# Altium footprint library footprint_hall_library.PcbLib: 37 footprints (part 1 of 3)
Each footprint in its own frame and in the unit in brackets; x right, y up, seen from the top. Pads: shape width x height; smd on the part's side, far side on the other; paste and mask are expansions set on the pad; w line width, h text height; cw(c..) or ccw(c..) is an arc to the next point about the centre after c.
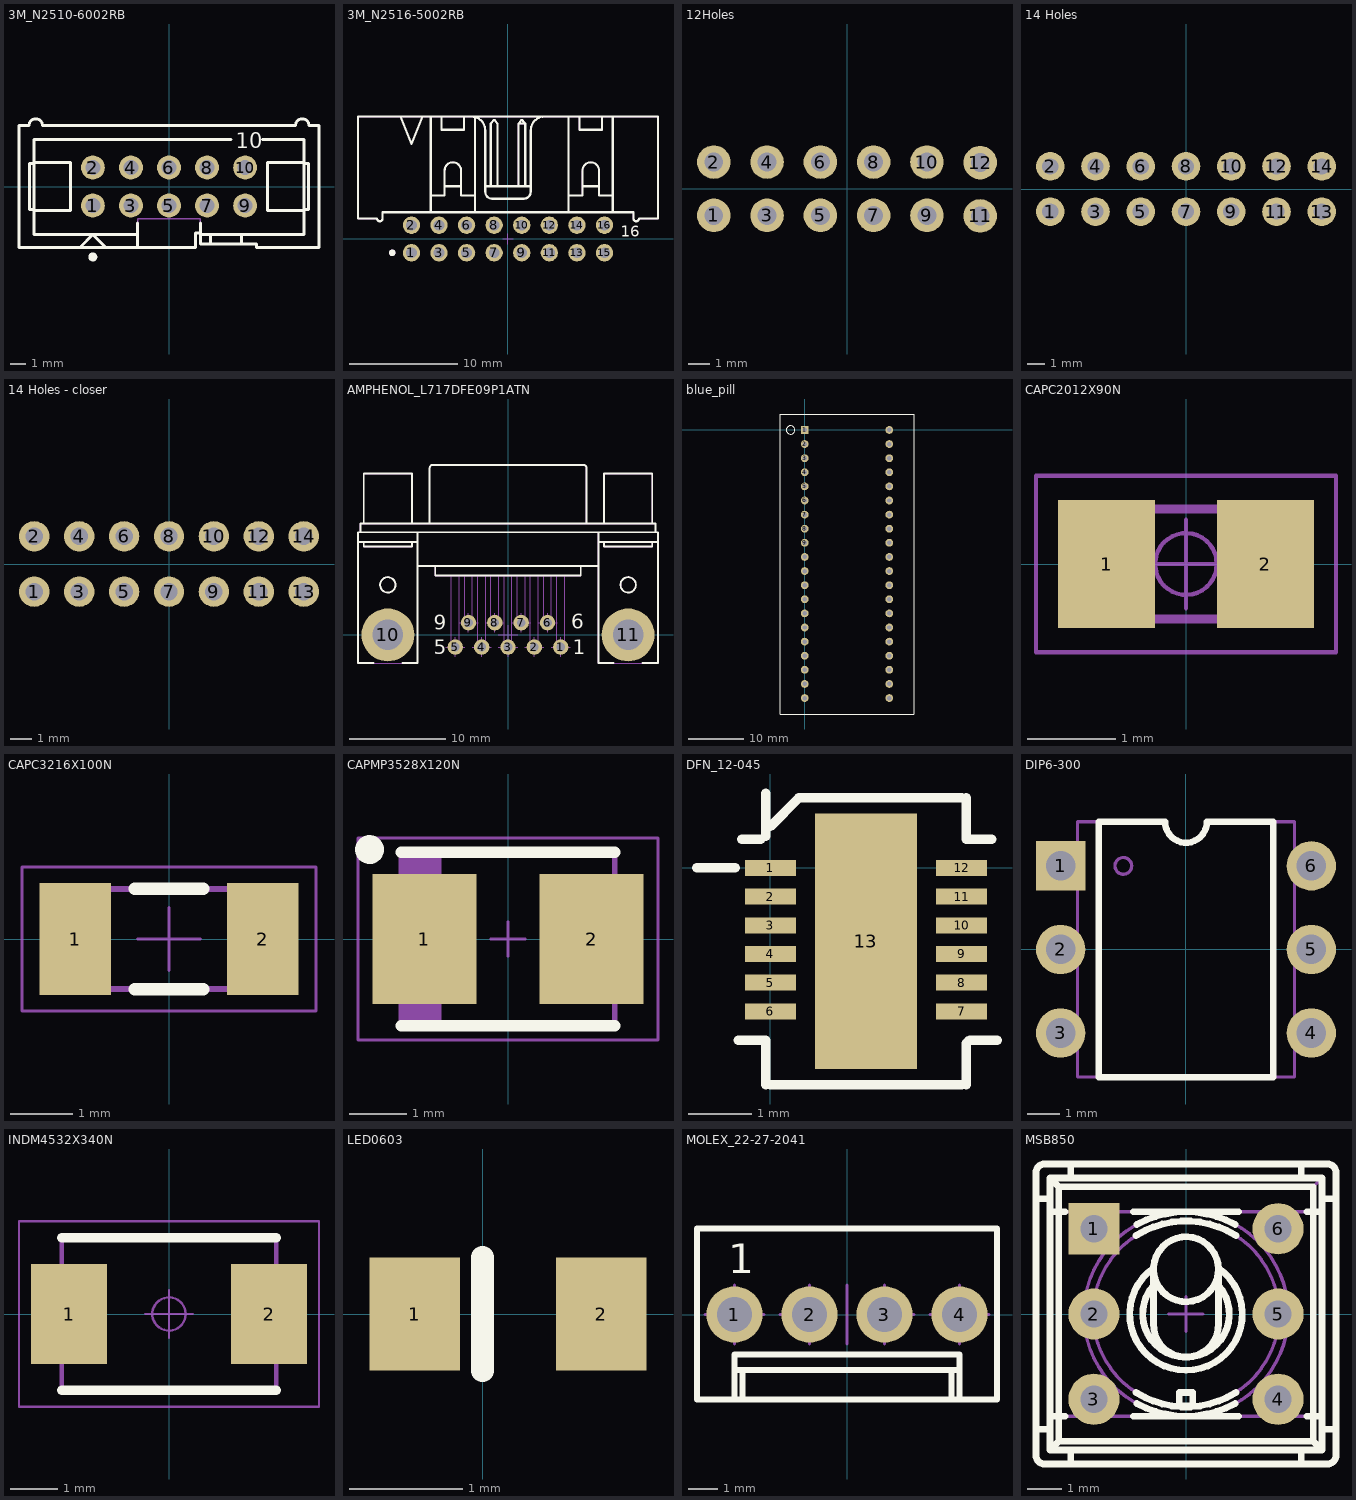
[diagram p0: the footprints below, top view; thin cyan lines are the x and y axes]

## 3M_N2510-6002RB [mm] "10 Contacts - Straight .100\" x .100\" Low Profile Four-Wall Header"
height 10.03
pads (10):
  round 1.6 hole 1: 1(-5.08,-1.27) 2(-5.08,1.27) 3(-2.54,-1.27) 4(-2.54,1.27) 5(0,-1.27) 6(0,1.27) 7(2.54,-1.27) 8(2.54,1.27) 9(5.08,-1.27) 10(5.08,1.27)
Top Overlay:
  circle w0.3: c-5.08,-4.699 r0.15
  lines w0.2: -8.992,-1.603 -6.579,-1.603 -6.579,1.603 -8.992,1.603 ; -8.992,-1.524 -9.296,-1.524 -9.296,1.524 -8.992,1.524 ; -5.944,-4.064 -5.08,-3.2 -4.216,-4.064 ; -2.096,-4.064 -2.096,-2.438 ; -2.096,-3.2 -8.992,-3.2 -8.992,3.15 4.128,3.15 ; 2.095,-3.2 8.992,-3.2 8.992,3.15 6.223,3.15 ; 2.095,-3.102 1.778,-3.102 1.778,-4.064 -10.008,-4.064 -10.008,4.064 -9.347,4.064 cw(c-8.89,4.064) -8.433,4.064 8.433,4.064 cw(c8.89,4.064) 9.347,4.064 10.008,4.064 10.008,-4.064 5.842,-4.064 5.842,-3.835 2.095,-3.835 2.095,-2.438 ; 2.769,-3.835 2.769,-3.2 ; 4.851,-3.835 4.851,-3.2 ; 8.992,-1.603 6.579,-1.603 6.579,1.603 8.992,1.603 ; 8.992,-1.524 9.296,-1.524 9.296,1.524 8.992,1.524
  text "10" at 4.445,2.54 h1.02
Mechanical 14:
  lines w0.1: -8.992,-1.603 -6.579,-1.603 -6.579,1.603 -8.992,1.603 ; -8.992,-1.524 -9.296,-1.524 -9.296,1.524 -8.992,1.524 ; -5.944,-4.064 -5.08,-3.2 -4.216,-4.064 ; -2.096,-4.064 -2.096,-2.159 2.095,-2.159 2.095,-3.835 5.842,-3.835 5.842,-4.064 10.008,-4.064 10.008,4.064 9.347,4.064 ccw(c8.89,4.064) 8.433,4.064 -8.433,4.064 ccw(c-8.89,4.064) -9.347,4.064 -10.008,4.064 -10.008,-4.064 1.778,-4.064 1.778,-3.102 2.095,-3.102 ; -2.096,-3.2 -8.992,-3.2 -8.992,3.15 4.128,3.15 ; 2.095,-3.2 8.992,-3.2 8.992,3.15 6.223,3.15 ; 2.769,-3.835 2.769,-3.2 ; 4.851,-3.835 4.851,-3.2 ; 8.992,-1.603 6.579,-1.603 6.579,1.603 8.992,1.603 ; 8.992,-1.524 9.296,-1.524 9.296,1.524 8.992,1.524
  text "10" at 4.445,2.54 h1.02
3D body "3M_N2510-6002RB.stp": height 9.65, standoff -2.59, extent -10.008,-4.064 10.008,4.572

## 3M_N2516-5002RB [mm] "16 Contacts - Right Angle .100\" x .100\" Low Profile Four-Wall Header"
height 8.59
pads (16):
  round 1.6 hole 1: 1(-8.89,-1.27) 2(-8.89,1.27) 3(-6.35,-1.27) 4(-6.35,1.27) 5(-3.81,-1.27) 6(-3.81,1.27) 7(-1.27,-1.27) 8(-1.27,1.27) 9(1.27,-1.27) 10(1.27,1.27) 11(3.81,-1.27) 12(3.81,1.27) 13(6.35,-1.27) 14(6.35,1.27) 15(8.89,-1.27) 16(8.89,1.27)
Top Overlay:
  circle w0.3: c-10.66,-1.27 r0.15
  lines w0.2: -9.903,11.28 -8.887,8.74 -7.871,11.28 ; -7.109,2.466 -7.109,11.28 ; -7.109,4.015 -5.839,4.015 -5.839,6.301 cw(c-5.077,6.301) -4.315,6.301 -4.315,4.015 -3.045,4.015 ; -6.118,11.28 -6.118,10.06 -4.035,10.06 -4.035,11.28 ; -5.839,4.854 -4.315,4.853 ; -3.362,11.28 cw(c-3.362,10.01) -2.092,10.01 -2.092,4.345 ccw(c-1.457,4.345) -1.457,3.71 ; -3.045,2.466 -3.045,11.239 ; -2.092,4.853 2.099,4.853 ; -1.584,4.853 -1.584,10.619 -1.323,10.954 -1.21,10.954 -0.956,10.628 -0.956,4.853 ; -1.457,3.71 1.464,3.71 ; 0.956,4.853 0.962,10.628 ; 1.464,3.71 ccw(c1.464,4.345) 2.099,4.345 2.099,10.01 ; 1.584,4.853 1.584,10.619 ; 2.099,10.01 cw(c3.369,10.01) 3.369,11.28 ; 5.591,2.466 5.591,11.28 ; 5.591,4.015 6.861,4.015 6.861,6.301 cw(c7.623,6.301) 8.385,6.301 8.385,4.015 9.655,4.015 ; 6.582,11.28 6.582,10.06 8.665,10.06 8.665,11.28 ; 6.861,4.853 8.385,4.853 ; 9.655,2.466 9.655,11.28 ; 0.962,10.628 1.217,10.954 1.33,10.954 1.584,10.619 ; 0.962,10.628 1.584,10.619 ; -13.814,1.882 -13.814,11.28 13.821,11.28 13.821,1.882 12.068,1.882 cw(c11.814,1.882) 11.56,1.882 11.56,2.466 -11.554,2.466 -11.554,1.882 cw(c-11.808,1.882) -12.062,1.882 -13.814,1.882
  text "16" at 10.375,0.207 h1.02
Mechanical 14:
  circle w0.3: c-10.66,-1.27 r0.15
  lines w0.1: -9.903,11.28 -8.887,8.74 -7.871,11.28 ; -7.109,2.466 -7.109,11.28 ; -7.109,4.015 -5.839,4.015 -5.839,6.301 cw(c-5.077,6.301) -4.315,6.301 -4.315,4.015 -3.045,4.015 ; -6.118,11.28 -6.118,10.06 -4.035,10.06 -4.035,11.28 ; -5.839,4.854 -4.315,4.853 ; -3.362,11.28 cw(c-3.362,10.01) -2.092,10.01 -2.092,4.345 ccw(c-1.457,4.345) -1.457,3.71 ; -3.045,2.466 -3.045,11.239 ; -2.092,4.853 2.099,4.853 ; -1.584,4.853 -1.584,10.619 -1.323,10.954 -1.21,10.954 -0.956,10.628 -0.956,4.853 ; -1.457,3.71 1.464,3.71 ; 0.956,4.853 0.962,10.628 ; 1.464,3.71 ccw(c1.464,4.345) 2.099,4.345 2.099,10.01 ; 1.584,4.853 1.584,10.619 ; 2.099,10.01 cw(c3.369,10.01) 3.369,11.28 ; 5.591,2.466 5.591,11.28 ; 5.591,4.015 6.861,4.015 6.861,6.301 cw(c7.623,6.301) 8.385,6.301 8.385,4.015 9.655,4.015 ; 6.582,11.28 6.582,10.06 8.665,10.06 8.665,11.28 ; 6.861,4.853 8.385,4.853 ; 9.655,2.466 9.655,11.28 ; 0.962,10.628 1.217,10.954 1.33,10.954 1.584,10.619 ; 0.962,10.628 1.584,10.619 ; -13.814,1.882 -13.814,11.28 13.821,11.28 13.821,1.882 12.068,1.882 cw(c11.814,1.882) 11.56,1.882 11.56,2.466 -11.554,2.466 -11.554,1.882 cw(c-11.808,1.882) -12.062,1.882 -13.814,1.882
  text "16" at 10.375,0.207 h1.02
Mechanical 15:
  lines w0.05: -0.5,0 0.5,0 ; 0,-0.5 0,0.5
3D body "3M_N2516-5002RB.stp": height 8.64, standoff -3.98, extent -13.814,-1.587 13.821,11.267

## 12Holes [mm]
pads (12):
  round 1.6 hole 0.9: 1(-6.35,-1.27) 2(-6.35,1.27) 3(-3.81,-1.27) 4(-3.81,1.27) 5(-1.27,-1.27) 6(-1.27,1.27) 7(1.27,-1.27) 8(1.27,1.27) 9(3.81,-1.27) 10(3.81,1.27) 11(6.35,-1.295) 12(6.35,1.245)

## 14 Holes [mm]
pads (14):
  round 1.6 hole 0.9: 1(-7.62,-1.27) 2(-7.62,1.27) 3(-5.08,-1.27) 4(-5.08,1.27) 5(-2.54,-1.27) 6(-2.54,1.27) 7(0,-1.27) 8(0,1.27) 9(2.54,-1.27) 10(2.54,1.27) 11(5.08,-1.27) 12(5.08,1.27) 13(7.62,-1.27) 14(7.62,1.27)

## 14 Holes - closer [mm]
pads (14):
  round 1.4 hole 0.8: 1(-6.195,-1.27) 2(-6.195,1.27) 3(-4.13,-1.27) 4(-4.13,1.27) 5(-2.065,-1.27) 6(-2.065,1.27) 7(0,-1.27) 8(0,1.27) 9(2.065,-1.27) 10(2.065,1.27) 11(4.13,-1.27) 12(4.13,1.27) 13(6.195,-1.27) 14(6.195,1.27)

## AMPHENOL_L717DFE09P1ATN [mm] "Right Angled D-Sub 9 Male Contacts with Metal Bracket and Front Female Screwlock (UNC4-40)"
height 13.4
pads (11):
  round 1.6 hole 0.9: 1(5.48,-1.27) 2(2.74,-1.27) 3(0,-1.27) 4(-2.74,-1.27) 5(-5.48,-1.27) 6(4.11,1.27) 7(1.37,1.27) 8(-1.37,1.27) 9(-4.11,1.27)
  round 5.5 hole 3.2: 10(-12.495,0) 11(12.495,0)
Top Overlay:
  circle w0.2: c-12.5,5.2 r0.8
  circle w0.2: c12.5,5.2 r0.8
  lines w0.2: -15.35,10.67 -15.35,11.57 15.35,11.57 15.35,10.67 ; -15,9.67 -15,9.17 -10,9.17 -10,9.67 ; -15,11.57 -15,16.77 -10,16.77 -10,11.57 ; -14,-2.93 -15.6,-2.93 -15.6,10.67 15.6,10.67 15.6,-2.93 14,-2.93 ; -11,-2.93 -9.4,-2.93 -9.4,10.67 ; -9.539,9.67 -15.6,9.67 -9.4,9.67 ; -9.4,7.17 9.4,7.17 ; -8.142,11.57 -8.142,17.37 cw(c-7.842,17.37) -7.842,17.67 7.861,17.67 cw(c7.861,17.37) 8.161,17.37 8.161,11.57 ; -7.57,7.17 -7.57,6.17 7.57,6.17 7.57,7.17 ; 9.4,9.67 15.6,9.67 ; 9.4,10.67 9.4,-2.93 11,-2.93 ; 10,9.67 10,9.17 15,9.17 15,9.67 ; 10,11.57 10,16.77 15,16.77 15,11.57
  text "6" at 6.604,0.635 h1.5
  text "5" at -7.747,-2.032 h1.5
  text "1" at 6.731,-2.032 h1.5
  text "9" at -7.747,0.508 h1.5
Mechanical 8:
  lines w0.1: -13.5,0 -12.5,0 ; -12.5,-1 -12.5,0 ; -12.5,1 -12.5,0 ; -11.5,0 -12.5,0 ; -6.48,-1.27 -5.48,-1.27 ; -5.48,-2.27 -5.48,-1.27 ; -5.48,-0.27 -5.48,-1.27 ; -5.11,1.27 -4.11,1.27 ; -4.48,-1.27 -5.48,-1.27 ; -4.11,0.27 -4.11,1.27 ; -4.11,2.27 -4.11,1.27 ; -3.74,-1.27 -2.74,-1.27 ; -3.11,1.27 -4.11,1.27 ; -2.74,-2.27 -2.74,-1.27 ; -2.74,-0.27 -2.74,-1.27 ; -2.37,1.27 -1.37,1.27 ; -1.74,-1.27 -2.74,-1.27 ; -1.37,0.27 -1.37,1.27 ; -1.37,2.27 -1.37,1.27 ; -1,-1.27 0,-1.27 ; -1,0 0,0 ; -0.37,1.27 -1.37,1.27 ; 0,-2.27 0,-1.27 ; 0,-1 0,0 ; 0,-0.27 0,-1.27 ; 0,1 0,0 ; 0.37,1.27 1.37,1.27 ; 1,-1.27 0,-1.27 ; 1,0 0,0 ; 1.37,0.27 1.37,1.27 ; 1.37,2.27 1.37,1.27 ; 1.74,-1.27 2.74,-1.27 ; 2.37,1.27 1.37,1.27 ; 2.74,-2.27 2.74,-1.27 ; 2.74,-0.27 2.74,-1.27 ; 3.11,1.27 4.11,1.27 ; 3.74,-1.27 2.74,-1.27 ; 4.11,0.27 4.11,1.27 ; 4.11,2.27 4.11,1.27 ; 4.48,-1.27 5.48,-1.27 ; 5.11,1.27 4.11,1.27 ; 5.48,-2.27 5.48,-1.27 ; 5.48,-0.27 5.48,-1.27 ; 6.48,-1.27 5.48,-1.27 ; 11.5,0 12.5,0 ; 12.5,-1 12.5,0 ; 12.5,1 12.5,0 ; 13.5,0 12.5,0
Mechanical 14:
  circle w0.1: c-12.5,0 r1.6
  circle w0.1: c-12.5,5.2 r0.8
  circle w0.1: c12.5,5.2 r0.8
  circle w0.1: c12.5,0 r1.6
  lines w0.1: -15.35,10.67 -15.35,11.57 15.35,11.57 15.35,10.67 ; -15,9.67 -15,9.17 -10,9.17 -10,9.67 ; -15,11.57 -15,16.77 -10,16.77 -10,11.57 ; -9.539,9.67 -15.6,9.67 -9.4,9.67 ; -9.4,7.17 9.4,7.17 ; -9.4,10.67 -9.4,-2.93 -15.6,-2.93 -15.6,10.67 15.6,10.67 15.6,-2.93 9.4,-2.93 9.4,10.67 ; -8.142,11.57 -8.142,17.37 cw(c-7.842,17.37) -7.842,17.67 7.861,17.67 cw(c7.861,17.37) 8.161,17.37 8.161,11.57 ; -7.57,7.17 -7.57,6.17 7.57,6.17 7.57,7.17 ; -5.88,6.17 -5.88,-1.27 ccw(c-5.48,-1.27) -5.08,-1.27 -5.08,6.17 ; -4.51,6.17 -4.51,1.27 ccw(c-4.11,1.27) -3.71,1.27 -3.71,6.17 ; -3.14,6.17 -3.14,-1.27 ccw(c-2.74,-1.27) -2.34,-1.27 -2.34,6.17 ; -1.77,6.17 -1.77,1.27 ccw(c-1.37,1.27) -0.97,1.27 -0.97,6.17 ; -0.4,6.17 -0.4,-1.27 ccw(c0,-1.27) 0.4,-1.27 0.4,6.17 ; 0.97,6.17 0.97,1.27 ccw(c1.37,1.27) 1.77,1.27 1.77,6.17 ; 2.34,6.17 2.34,-1.27 ccw(c2.74,-1.27) 3.14,-1.27 3.14,6.17 ; 3.71,6.17 3.71,1.27 ccw(c4.11,1.27) 4.51,1.27 4.51,6.17 ; 5.08,6.17 5.08,-1.27 ccw(c5.48,-1.27) 5.88,-1.27 5.88,6.17 ; 9.4,9.67 15.6,9.67 ; 10,9.67 10,9.17 15,9.17 15,9.67 ; 10,11.57 10,16.77 15,16.77 15,11.57
3D body "AMPHENOL_L717DFE09P1ATN.stp": height 13.45, standoff -3.95, extent -15.6,-2.93 15.6,17.67

## blue_pill [mm] "STM 32F103 board"
height 25.4
pads (40):
  rect 1.4x1.4 hole 0.8: 1(0,0)
  round 1.4 hole 0.8: 2(0,-2.54) 3(0,-5.08) 4(0,-7.62) 5(0,-10.16) 6(0,-12.7) 7(0,-15.24) 8(0,-17.78) 9(0,-20.32) 10(0,-22.86) 11(0,-25.4) 12(0,-27.94) 13(0,-30.48) 14(0,-33.02) 15(0,-35.56) 16(0,-38.1) 17(0,-40.64) 18(0,-43.18) 19(0,-45.72) 20(0,-48.26) 21(15.24,-48.26) 22(15.24,-45.72) 23(15.24,-43.18) 24(15.24,-40.64) 25(15.24,-38.1) 26(15.24,-35.56) 27(15.24,-33.02) 28(15.24,-30.48) 29(15.24,-27.94) 30(15.24,-25.4) 31(15.24,-22.86) 32(15.24,-20.32) 33(15.24,-17.78) 34(15.24,-15.24) 35(15.24,-12.7) 36(15.24,-10.16) 37(15.24,-7.62) 38(15.24,-5.08) 39(15.24,-2.54) 40(15.24,0)
Top Overlay:
  circle w0.15: c-2.54,0 r0.762
  lines w0.2: -4.38,-51.13 -4.38,2.87 19.62,2.87 19.62,-51.13 -4.38,-51.13
3D body: height 20, standoff 1.52, extent -3.81,-50.8 19.05,2.54

## CAPC2012X90N [mm] "Chip Capacitor, Body 2.0x1.25mm, IPC Medium Density"
height 0.9
pads (2):
  rect 1.1x1.45 smd: 1(-0.9,0) 2(0.9,0)
Mechanical 14:
  lines w0.1: -1,-0.625 1,-0.625 1,0.625 -1,0.625 -1,-0.625
Mechanical 15:
  circle w0.05: c0,0 r0.35
  lines w0.05: -0.5,0 0.5,0 ; 0,-0.5 0,0.5 ; -1.7,-1 1.7,-1 1.7,1 -1.7,1 -1.7,-1
3D body "CAPC2012X90N.stp": height 0.9, standoff 0, extent -1.05,-0.675 1.05,0.675

## CAPC3216X100N [mm] "Chip Capacitor, Body 3.2x1.6mm, IPC Medium Density"
height 1
pads (2):
  rect 1.15x1.8 smd: 1(-1.5,0) 2(1.5,0)
Top Overlay:
  lines w0.2: -0.55,-0.8 0.55,-0.8 ; -0.55,0.8 0.55,0.8
Mechanical 14:
  lines w0.1: -1.6,-0.8 -1.6,0.8 1.6,0.8 1.6,-0.8 -1.6,-0.8
Mechanical 15:
  lines w0.05: -0.5,0 0.5,0 ; 0,-0.5 0,0.5 ; -2.35,-1.15 -2.35,1.15 2.35,1.15 2.35,-1.15 -2.35,-1.15
3D body "CAPC3216X94N.stp": height 0.94, standoff 0, extent -1.7,-0.9 1.7,0.9

## CAPMP3528X120N [mm] "Capacitor, Polarized, Molded  Body 3.5x2.8mm, IPC Medium Density"
height 1.2
pads (2):
  rect 1.8x2.25 smd: 1(-1.45,0) 2(1.45,0)
Top Overlay:
  circle w0.25: c-2.4,1.55 r0.125
  lines w0.2: -1.85,-1.5 1.85,-1.5 ; -1.85,1.5 1.85,1.5
Mechanical 14:
  lines w0.1: -1.8,-1.5 -1.8,1.5 ; -1.725,-1.5 -1.725,1.5 ; -1.65,-1.5 -1.65,1.5 ; -1.575,-1.5 -1.575,1.5 ; -1.5,-1.5 -1.5,1.5 ; -1.425,-1.5 -1.425,1.5 ; -1.35,-1.5 -1.35,1.5 ; -1.275,-1.5 -1.275,1.5 ; -1.2,-1.5 -1.2,1.5 ; -1.85,-1.5 -1.85,1.5 1.85,1.5 1.85,-1.5 -1.85,-1.5
Mechanical 15:
  lines w0.05: -0.3,0 0.3,0 ; 0,-0.3 0,0.3 ; -2.6,-1.75 2.6,-1.75 2.6,1.75 -2.6,1.75 -2.6,-1.75
3D body "CAPMP3528X120N.stp": height 1.2, standoff 0, extent -1.85,-1.5 1.85,1.5

## DFN_12-045 [mm] "0.45mm pitch 12pin"
height 0.75
pads (13):
  rect 0.8x0.25 smd: 1(0,0) 2(0,-0.45) 3(0,-0.9) 4(0,-1.35) 5(0,-1.8) 6(0,-2.25) 7(3,-2.25) 8(3,-1.8) 9(3,-1.35) 10(3,-0.9) 11(3,-0.45) 12(3,0)
  rect 1.6x4 smd: 13(1.5,-1.15)
Top Overlay:
  lines w0.15: -1.15,0 -0.55,0 ; -0.5,-2.7 -0.075,-2.7 -0.075,-3.4 ; -0.45,0.45 -0.15,0.45 ; -0.075,0.5 -0.075,1.17 ; 0,-3.4 3,-3.4 ; 0,0.65 0.45,1.1 3,1.1 ; 3.075,-3.4 3.075,-2.75 3.125,-2.7 3.3,-2.7 3.555,-2.7 ; 3.075,1.1 3.075,0.45 3.475,0.45
3D body: height 0.75, standoff 0, extent 0,-2.625 3,0.375

## DIP6-300 [mm] "DIP 6 Leads, Row Spacing 7.62 mm; Pitch 2.54 mm"
height 5.08
pads (6):
  rect 1.5x1.5 hole 0.9: 1(-3.81,2.54)
  round 1.5 hole 0.9: 2(-3.81,0) 3(-3.81,-2.54) 4(3.81,-2.54) 5(3.81,0) 6(3.81,2.54)
Top Overlay:
  lines w0.2: -0.635,3.88 ccw(c0,3.88) 0.635,3.88 ; -0.635,3.88 ccw(c0,3.88) 0.635,3.88 ; -0.635,3.88 -2.65,3.88 -2.65,-3.88 2.65,-3.88 2.65,3.88 0.635,3.88
Mechanical 14:
  circle w0.1: c-1.905,2.54 r0.254
  lines w0.1: -3.3,-3.88 3.3,-3.88 3.3,3.88 0.635,3.88 cw(c0,3.88) -0.635,3.88 -3.3,3.88 -3.3,-3.88
3D body "DIP6-300.stp": height 5.33, standoff -3.3, extent -3.935,-3.81 3.935,3.81

## INDM4532X340N [mm] "Inductor, Molded Body; 4.5mm L X 3.2mm W, IPC Medium Density"
height 3.4
pads (2):
  rect 1.6x2.1 smd: 1(-2.1,0) 2(2.1,0)
Top Overlay:
  lines w0.2: -2.25,-1.6 2.25,-1.6 ; -2.25,1.6 2.25,1.6
Mechanical 14:
  lines w0.1: -2.25,-1.6 2.25,-1.6 2.25,1.6 -2.25,1.6 -2.25,-1.6
Mechanical 15:
  circle w0.05: c0,0 r0.35
  lines w0.05: -0.5,0 0.5,0 ; 0,-0.5 0,0.5 ; -3.15,-1.95 3.15,-1.95 3.15,1.95 -3.15,1.95 -3.15,-1.95
3D body "INDM4532X340N.stp": height 3.4, standoff 0, extent -2.25,-1.6 2.25,1.6

## LED0603 [mm] "Chip LED 0603, Body 2.25x1mm"
height 0.85
pads (2):
  rect 0.8x1 smd: 1(-0.6,0) 2(1.05,0)
Top Overlay:
  lines w0.2: 0,-0.5 0,-0.25 0,0.25 0,0.5
Mechanical 14:
  lines w0.1: -0.65,-0.4 -0.65,0.4 ; 0.95,-0.4 0.95,0.4
3D body: height 0.25, standoff 0, extent -1,-0.425 -1,-0.425
3D body: height 0.25, standoff 0, extent -1.1,0.4 -1.1,0.4
3D body: height 0.25, standoff 0, extent -1.1,0.4 -1.1,0.4
3D body: height 0.25, standoff 0, extent -1.1,0.4 -1.1,0.4
3D body: height 0.25, standoff 0, extent -1.1,0.4 -1.1,0.4
3D body: height 0.1, standoff 0, extent -0.674,-0.475 -0.3,0.475
3D body: height 0.1, standoff 0, extent 0.85,-0.475 1.224,0.475
3D body: height 0.1, standoff 0, extent -0.3,-0.475 0.85,0.475
3D body: height 0.95, standoff 0.1, extent -0.487,-0.475 1.037,0.475

## MOLEX_22-27-2041 [mm] "2.54mm (.100\") Pitch KK® Header, Single Row, Vertical, 4 Circuits"
height 11.7
pads (4):
  round 1.9 hole 1.2: 1(-3.81,0) 2(-1.27,0) 3(1.27,0) 4(3.81,0)
Top Overlay:
  lines w0.2: -3.81,-2.883 -3.81,-1.353 3.81,-1.353 3.81,-2.883 ; -3.81,-1.883 3.81,-1.883 ; -3.537,-2.883 -3.537,-1.883 ; 3.537,-2.883 3.537,-1.883 ; -5.08,-2.883 5.08,-2.883 5.08,2.918 -5.08,2.918 -5.08,-2.883
  text "1" at -4.02,1.395 h1
Mechanical 8:
  lines w0.1: -4.81,0 -3.81,0 ; -3.81,-1 -3.81,0 ; -3.81,1 -3.81,0 ; -2.81,0 -3.81,0 ; -2.27,0 -1.27,0 ; -1.27,-1 -1.27,0 ; -1.27,1 -1.27,0 ; 0,-1 0,0 0,1 ; 1.27,-1 1.27,0 ; 1.27,1 1.27,0 ; 2.27,0 1.27,0 ; 2.81,0 3.81,0 ; 3.81,-1 3.81,0 ; 3.81,1 3.81,0 ; 4.81,0 3.81,0
Mechanical 14:
  lines w0.1: -3.81,-2.883 -3.81,-1.353 3.81,-1.353 3.81,-2.883 ; -3.81,-1.883 3.81,-1.883 ; -3.537,-2.883 -3.537,-1.883 ; 3.537,-2.883 3.537,-1.883 ; -5.08,-2.883 5.08,-2.883 5.08,2.918 -5.08,2.918 -5.08,-2.883 ; -4.13,-0.318 -4.13,0.318 -3.49,0.318 -3.49,-0.318 -4.13,-0.318 ; -1.59,-0.318 -1.59,0.318 -0.95,0.318 -0.95,-0.318 -1.59,-0.318 ; 0.95,-0.318 0.95,0.318 1.59,0.318 1.59,-0.318 0.95,-0.318 ; 3.49,-0.318 3.49,0.318 4.13,0.318 4.13,-0.318 3.49,-0.318
  text "1" at -4.02,1.395 h1
3D body "MOLEX_22-27-2041.stp": height 11.7, standoff -3.56, extent -5.08,-2.882 5.08,2.918

## MSB850 [mm] "Body 8.8x8.8mm, Straight PCB Mounting  SubminiatureToggle SPDT Switch"
height 19.4
pads (6):
  rect 1.5x1.5 hole 0.8: 1(-2.7,2.5)
  round 1.5 hole 0.8: 2(-2.7,0) 3(-2.7,-2.5) 4(2.7,-2.5) 5(2.7,0) 6(2.7,2.5)
Top Overlay:
  circle w0.2: c0,1.314 r0.953
  lines w0.2: -4.394,-3.378 -3.988,-3.378 ; -4.394,3.378 -3.988,3.378 ; -3.988,-2.997 -3.54,-2.997 ; -3.988,2.997 -3.54,2.997 ; -3.378,-4.394 -3.378,-3.988 ; -3.378,3.988 -3.378,4.394 ; -1.54,-2.997 1.54,-2.997 ; -1.54,2.997 1.54,2.997 ; -1.467,-2.299 ccw(c0,0) 1.467,-2.299 ; -1.467,2.299 cw(c0,0) 1.467,2.299 ; -1.443,-2.627 ccw(c0,0) 1.443,-2.627 ; -1.443,2.627 cw(c0,0) 1.443,2.627 ; -0.953,0.84 ccw(c0,0) 0.953,0.84 ; -0.953,1.314 -0.953,-0.286 ccw(c0,-0.309) 0.952,-0.286 0.953,1.314 ; -0.952,1.349 ccw(c0,0) 0.952,1.349 ; 3.378,-4.394 3.378,-3.988 ; 3.378,3.988 3.378,4.394 ; 3.54,-2.997 3.988,-2.997 ; 3.54,2.997 3.988,2.997 ; 3.988,-3.378 4.394,-3.378 ; 3.988,3.378 4.394,3.378 ; -3.988,-3.988 3.988,-3.988 ; -3.988,-3.988 -3.988,3.988 ; -3.988,-3.988 -3.734,-3.734 ; -3.988,3.988 3.988,3.988 3.988,-3.988 ; -3.988,3.988 -3.734,3.734 ; -3.734,-3.734 3.734,-3.734 ; -3.734,-3.734 -3.734,3.734 ; -3.734,3.734 3.734,3.734 3.734,-3.734 ; 3.734,-3.734 3.988,-3.988 ; -4.4,-4.146 ccw(c-4.146,-4.146) -4.146,-4.4 4.146,-4.4 ccw(c4.146,-4.146) 4.4,-4.146 4.4,4.146 ccw(c4.146,4.146) 4.146,4.4 -4.146,4.4 ccw(c-4.146,4.146) -4.4,4.146 -4.4,-4.146 ; -0.2,-2.7 0.2,-2.7 0.2,-2.3 -0.2,-2.3 -0.2,-2.7
Mechanical 8:
  lines w0.1: -3.04,-2.54 -2.54,-2.54 ; -3.04,0 -2.54,0 ; -3.04,2.54 -2.54,2.54 ; -2.54,-3.04 -2.54,-2.54 ; -2.54,-2.04 -2.54,-2.54 ; -2.54,-0.5 -2.54,0 ; -2.54,0.5 -2.54,0 ; -2.54,2.04 -2.54,2.54 ; -2.54,3.04 -2.54,2.54 ; -2.04,-2.54 -2.54,-2.54 ; -2.04,0 -2.54,0 ; -2.04,2.54 -2.54,2.54 ; -0.5,0 0,0 ; 0,-0.5 0,0 ; 0,0.5 0,0 ; 0.5,0 0,0 ; 2.04,-2.54 2.54,-2.54 ; 2.04,0 2.54,0 ; 2.04,2.54 2.54,2.54 ; 2.54,-3.04 2.54,-2.54 ; 2.54,-2.04 2.54,-2.54 ; 2.54,-0.5 2.54,0 ; 2.54,0.5 2.54,0 ; 2.54,2.04 2.54,2.54 ; 2.54,3.04 2.54,2.54 ; 3.04,-2.54 2.54,-2.54 ; 3.04,0 2.54,0 ; 3.04,2.54 2.54,2.54
Mechanical 14:
  circle w0.1: c0,0 r2.997
  circle w0.1: c0,1.314 r0.953
  circle w0.1: c0,0 r2.727
  lines w0.1: -4.394,-3.378 -3.988,-3.378 ; -4.394,3.378 -3.988,3.378 ; -3.988,-2.997 3.988,-2.997 ; -3.988,2.997 3.988,2.997 ; -3.378,-4.394 -3.378,-3.988 ; -3.378,3.988 -3.378,4.394 ; -0.953,0.84 ccw(c0,0) 0.953,0.84 ; -0.953,1.314 -0.953,-0.286 ccw(c0,-0.309) 0.952,-0.286 0.953,1.314 ; -0.952,1.349 ccw(c0,0) 0.952,1.349 ; 3.378,-4.394 3.378,-3.988 ; 3.378,3.988 3.378,4.394 ; 3.988,-3.378 4.394,-3.378 ; 3.988,3.378 4.394,3.378 ; -3.988,-3.988 3.988,-3.988 ; -3.988,-3.988 -3.988,3.988 ; -3.988,-3.988 -3.734,-3.734 ; -3.988,3.988 3.988,3.988 ; -3.988,3.988 -3.734,3.734 ; -3.734,-3.734 3.734,-3.734 ; -3.734,-3.734 -3.734,3.734 ; -3.734,3.734 3.734,3.734 ; 3.734,-3.734 3.734,3.734 ; 3.734,-3.734 3.988,-3.988 ; 3.734,3.734 3.988,3.988 ; 3.988,-3.988 3.988,3.988 ; -4.4,-4.146 ccw(c-4.146,-4.146) -4.146,-4.4 4.146,-4.4 ccw(c4.146,-4.146) 4.4,-4.146 4.4,4.146 ccw(c4.146,4.146) 4.146,4.4 -4.146,4.4 ccw(c-4.146,4.146) -4.4,4.146 -4.4,-4.146 ; -0.2,-2.7 -0.2,-2.3 0.2,-2.3 0.2,-2.7 -0.2,-2.7
3D body "SW_NKK_B12JJPC.stp": height 19.26, standoff -3.1, extent -4.394,-4.394 4.394,4.394